# Altium schematic symbol library NRF52832-QFAA-G-R7.SchLib: 1 symbol
Pins are listed as number, name and electrical type; pins without a type are passive.

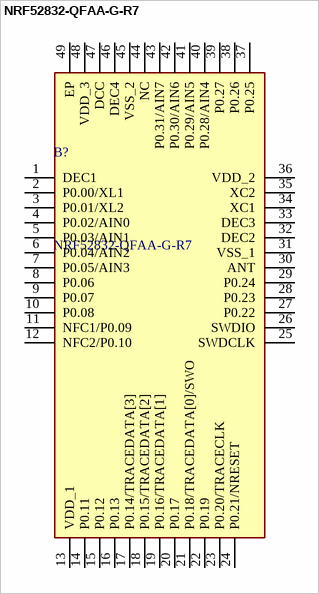
[diagram p0: symbol NRF52832-QFAA-G-R7]

## NRF52832-QFAA-G-R7
designator B?
RF System on a Chip - SoC Versatile Bluetooth 5.3 SoC supporting Bluetooth Low Energy, Bluetooth mesh and NFC; Manufacturer_Name: Nordic Semiconductor; Geometry.Height: 0.95mm; Mouser Part Number: 949-NRF52832QFAAG-R7; Mouser Price/Stock: https://www.mouser.co.uk/ProductDetail/Nordic-Semiconductor/NRF52832-QFAA-G-R7?qs=iLbezkQI%252BsiMpMdgrsoFbQ%3D%3D; Manufacturer_Part_Number: NRF52832-QFAA-G-R7; Datasheet Link: https://infocenter.nordicsemi.com/pdf/nRF52832_PS_v1.8.pdf
footprint QFN40P600X600X95-49N
pins: 1 DEC1, 2 P0.00/XL1, 3 P0.01/XL2, 4 P0.02/AIN0, 5 P0.03/AIN1, 6 P0.04/AIN2, 7 P0.05/AIN3, 8 P0.06, 9 P0.07, 10 P0.08, 11 NFC1/P0.09, 12 NFC2/P0.10, 13 VDD_1, 14 P0.11, 15 P0.12, 16 P0.13, 17 P0.14/TRACEDATA[3], 18 P0.15/TRACEDATA[2], 19 P0.16/TRACEDATA[1], 20 P0.17, 21 P0.18/TRACEDATA[0]/SWO, 22 P0.19, 23 P0.20/TRACECLK, 24 P0.21/NRESET, 25 SWDCLK, 26 SWDIO, 27 P0.22, 28 P0.23, 29 P0.24, 30 ANT, 31 VSS_1, 32 DEC2, 33 DEC3, 34 XC1, 35 XC2, 36 VDD_2, 37 P0.25, 38 P0.26, 39 P0.27, 40 P0.28/AIN4, 41 P0.29/AIN5, 42 P0.30/AIN6, 43 P0.31/AIN7, 44 NC, 45 VSS_2, 46 DEC4, 47 DCC, 48 VDD_3, 49 EP